# EAGLE library part LMV324 (library PiB_op_amps)
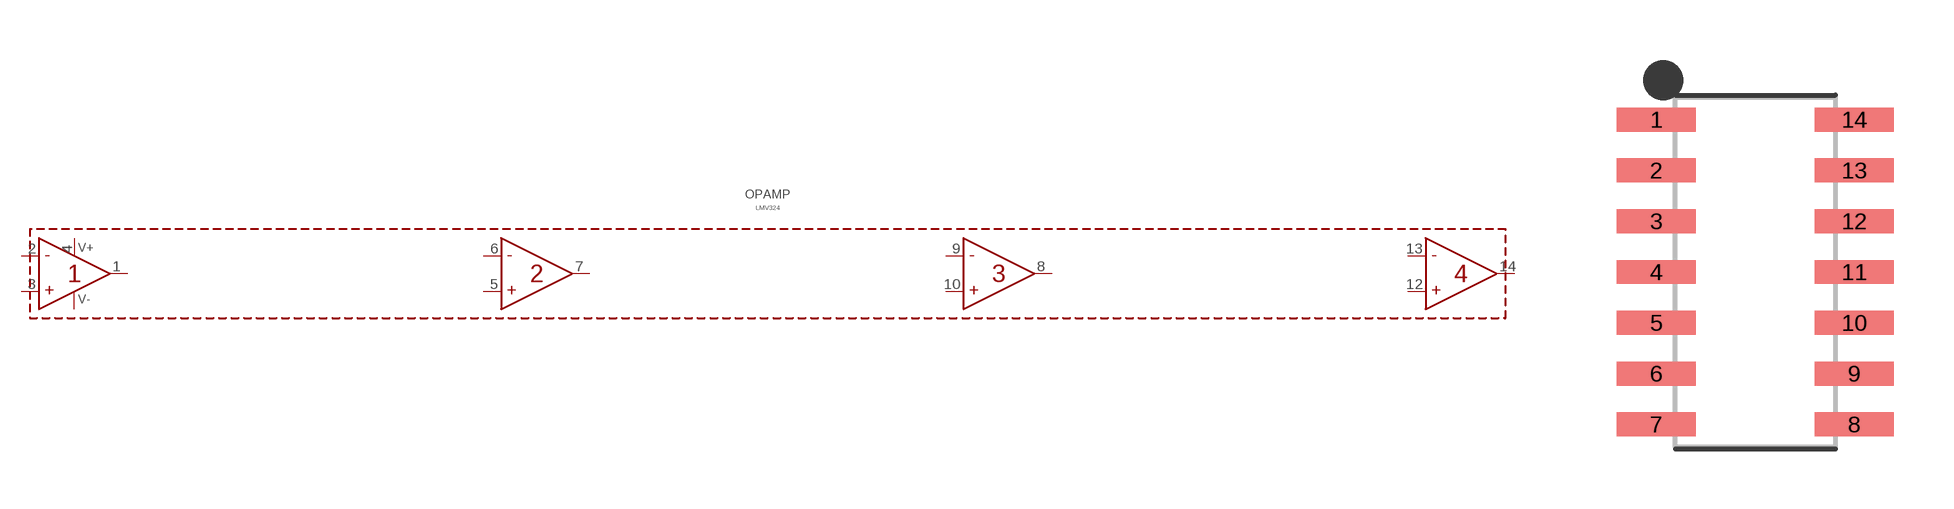
[diagram p3: symbol with the pads of SOIC127P600X175-14; footprint SOIC127P600X175-14]

Designator prefix OPAMP

## LMV324 (DATASHEET: http://www.ti.com/lit/ds/symlink/lmv324.pdf; DIST: Digikey; DISTLINK: https://www.digikey.com/products/en?keywords=296-9569-1-ND; DISTPN: 296-9569-1-ND; MFR: Texas Instruments; MPN: LMV324IDR; VALUE: LMV324)  [SOIC127P600X175-14]
1  OUT-1  out
2  IN-1-  in
3  IN-1+  in
4  V+  pas
5  IN-2+  in
6  IN-2-  in
7  OUT-2  out
8  OUT-3  out
9  IN-3-  in
10  IN-3+  in
11  V-  pas
12  IN-4+  in
13  IN-4-  in
14  OUT-4  out

## Footprint SOIC127P600X175-14 (pad centres in mm)
14-SOIC, 1.27 mm pitch, 6.00 mm span, 8.65 X 3.90 X 1.75 mm body 14-pin SOIC package with 1.27 mm pitch, 6.00 mm span with body size 8.65 X 3.90 X 1.75 mm
smd 1.968 x 0.599: 1 -2.473,3.81; 2 -2.473,2.54; 3 -2.473,1.27; 4 -2.473,0; 5 -2.473,-1.27; 6 -2.473,-2.54; 7 -2.473,-3.81; 8 2.473,-3.81; 9 2.473,-2.54; 10 2.473,-1.27; 11 2.473,0; 12 2.473,1.27; 13 2.473,2.54; 14 2.473,3.81